# EAGLE library part 74*528 (library 74xx-eu)
12-bit programmable COMPARATOR
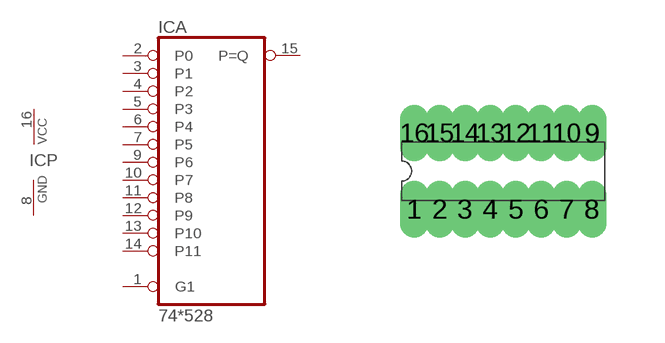
[diagram p231: symbol with the pads of DIL16; footprint DIL16]

Designator prefix IC; gates A=74528 P=PWRN

## 74528N, 74ALS528N  [DIL16]
1  A:G1  in
2  A:P0  in
3  A:P1  in
4  A:P2  in
5  A:P3  in
6  A:P4  in
7  A:P5  in
8  P:GND  pwr
9  A:P6  in
10  A:P7  in
11  A:P8  in
12  A:P9  in
13  A:P10  in
14  A:P11  in
15  A:P=Q  out
16  P:VCC  pwr

## Footprint DIL16 (pad centres in mm)
Dual In Line Package
drill 0.203 long: 1 -2.223,-0.953; 2 -1.587,-0.953; 3 -0.953,-0.953; 4 -0.318,-0.953; 5 0.318,-0.953; 6 0.953,-0.953; 7 1.587,-0.953; 8 2.223,-0.953; 9 2.223,0.953; 10 1.587,0.953; 11 0.953,0.953; 12 0.318,0.953; 13 -0.318,0.953; 14 -0.953,0.953; 15 -1.587,0.953; 16 -2.223,0.953